# Altium footprint library APSS Prototype Parts.PcbLib: 22 footprints (part 2 of 2)
Each footprint in its own frame and in the unit in brackets; x right, y up, seen from the top. Pads: shape width x height; smd on the part's side, far side on the other; paste and mask are expansions set on the pad; w line width, h text height; cw(c..) or ccw(c..) is an arc to the next point about the centre after c.
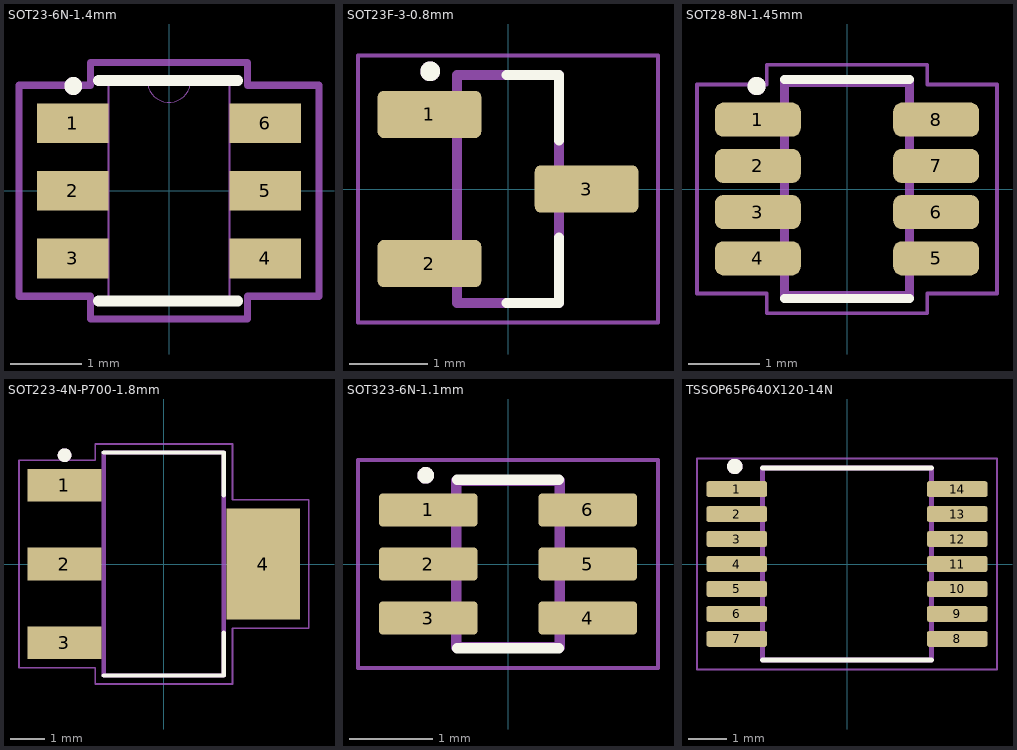
[diagram p1: the footprints below, top view; thin cyan lines are the x and y axes]

## SOT23-6N-1.4mm [mil] "SOT23, 6 pins, nominal pads, 1.4mm high"
height 55.12
pads (6):
  rect 39.5x22 smd paste+0 mask+2: 1(-53.25,37.4) 2(-53.25,0) 3(-53.25,-37.4) 4(53.25,-37.4) 5(53.25,0) 6(53.25,37.4)
Top Overlay:
  circle w7.87: c-53,58 r1
  lines w6: -39,-61 38,-61 ; -39,61 38,61
Mechanical 13:
  circle w7.87: c-53,58 r1
  lines w0: -12,61 ccw(c0,61) 12,61
  lines w1: -59,-47.4 -59,-27.4 -33.5,-27.4 -33.5,-47.4 -59,-47.4 ; -59,-10 -59,10 -33.5,10 -33.5,-10 -59,-10 ; -59,27.4 -59,47.4 -33.5,47.4 -33.5,27.4 -59,27.4 ; -33.5,-61 33.5,-61 33.5,61 -33.5,61 -33.5,-61 ; 33.5,-47.4 33.5,-27.4 59,-27.4 59,-47.4 33.5,-47.4 ; 33.5,-10 33.5,10 59,10 59,-10 33.5,-10 ; 33.5,27.4 33.5,47.4 59,47.4 59,27.4 33.5,27.4
Mechanical 15:
  lines w4: -83,-58.4 -83,58.4 -43.5,58.4 -43.5,71 43.5,71 43.5,58.4 83,58.4 83,-58.4 43.5,-58.4 43.5,-71 -43.5,-71 -43.5,-58.4 -83,-58.4
3D body "SOT26_AP3445_DIO.step": height 55.12, standoff 0, extent -59.02,-60.98 59.02,60.98

## SOT23F-3-0.8mm [mm] "SOT23, 3-pin, flat leads, 0.8mm high"
height 0.8
pads (3):
  rrect25% 1.32x0.6 smd mask+0.051: 1(-1,0.95) 2(-1,-0.95) 3(1,0)
Top Overlay:
  circle w0.2: c-0.991,1.499 r0.025
  lines w0.127: -0.02,-1.45 0.65,-1.45 0.65,-0.62 ; -0.02,1.45 0.65,1.45 0.65,0.62
Mechanical 13:
  circle w0.2: c-0.991,1.499 r0.025
  lines w0.127: -0.65,-1.45 -0.65,1.45 0.65,1.45 0.65,-1.45 -0.65,-1.45
Mechanical 15:
  lines w0.05: -1.91,-1.7 1.91,-1.7 1.91,1.7 -1.91,1.7 -1.91,-1.7
3D body "SSM3J328R_LF.step": height 0.88, standoff 0, extent -1.2,-1.4 1.2,1.4

## SOT28-8N-1.45mm [mm] "SOT28, 8 pin, 1.45mm high, nominal pads"
height 1.45
pads (8):
  rrect50% 1.21x0.48 smd mask+0.051: 1(-1.255,0.975) 2(-1.255,0.325) 3(-1.255,-0.325) 4(-1.255,-0.975) 5(1.255,-0.975) 6(1.255,-0.325) 7(1.255,0.325) 8(1.255,0.975)
Top Overlay:
  circle w0.203: c-1.27,1.448 r0.025
  lines w0.127: -0.88,-1.54 0.88,-1.54 ; -0.88,1.54 0.88,1.54
Mechanical 13:
  circle w0.203: c-1.27,1.448 r0.025
  lines w0.127: -0.88,-1.5 -0.88,1.5 0.88,1.5 0.88,-1.5 -0.88,-1.5
Mechanical 15:
  lines w0.05: -2.11,-1.47 -1.13,-1.47 -1.13,-1.75 1.13,-1.75 1.13,-1.47 2.11,-1.47 2.11,1.47 1.13,1.47 1.13,1.75 -1.13,1.75 -1.13,1.47 -2.11,1.47 -2.11,-1.47
3D body "MAX9113EKA+T.STEP": height 1.45, standoff 0, extent -1.4,-1.45 1.4,1.45

## SOT223-4N-P700-1.8mm [mm] "SOT223, 4-pin, power pad, 1.8mm high,"
height 1.8
pads (4):
  rect 2.15x0.95 smd: 1(-2.9,2.3) 2(-2.9,0) 3(-2.9,-2.3)
  rect 2.15x3.25 smd: 4(2.9,0)
Top Overlay:
  circle w0.2: c-2.896,3.175 r0.1
  lines w0.127: -1.75,-3.25 1.75,-3.25 1.75,-2.01 ; -1.75,3.25 1.75,3.25 1.75,2.01
Mechanical 13:
  circle w0.2: c-2.896,3.175 r0.1
  lines w0.127: -1.75,-3.25 -1.75,3.25 1.75,3.25 1.75,-3.25 -1.75,-3.25
Mechanical 15:
  lines w0.05: -4.225,-3.025 -4.225,3.025 -2,3.025 -2,3.5 2,3.5 2,1.875 4.225,1.875 4.225,-1.875 2,-1.875 2,-3.5 -2,-3.5 -2,-3.025 -4.225,-3.025
3D body "LM317EMPX_NOPB.step": height 1.8, standoff 0, extent -3.499,-3.25 3.499,3.25

## SOT323-6N-1.1mm [mm] "SOT323, 6 pins, nominal pads, 1.1mm high"
height 1.1
pads (6):
  rrect25% 1.19x0.4 smd mask+0.051: 1(-0.96,0.65) 2(-0.96,0) 3(-0.96,-0.65) 4(0.96,-0.65) 5(0.96,0) 6(0.96,0.65)
Top Overlay:
  circle w0.1: c-0.991,1.067 r0.051
  lines w0.127: -0.61,-1.016 0.61,-1.016 ; -0.61,1.016 0.61,1.016
Mechanical 13:
  circle w0.1: c-0.991,1.067 r0.051
  lines w0.127: -0.625,-1 0.625,-1 0.625,1 -0.625,1 -0.625,-1
Mechanical 15:
  lines w0.05: -1.805,-1.25 1.805,-1.25 1.805,1.25 -1.805,1.25 -1.805,-1.25
3D body "step_temp.STEP": height 1.1, standoff 0, extent -1.05,-1 1.05,1

## TSSOP65P640X120-14N [mm] "TSSOP/MSOP/VSSOP, 4.4mm wide, 14 pin nominal, 1.2mm high"
height 1.2
pads (14):
  rrect25% 1.57x0.41 smd mask+0.051: 1(-2.87,1.95) 2(-2.87,1.3) 3(-2.87,0.65) 4(-2.87,0) 5(-2.87,-0.65) 6(-2.87,-1.3) 7(-2.87,-1.95) 8(2.87,-1.95) 9(2.87,-1.3) 10(2.87,-0.65) 11(2.87,0) 12(2.87,0.65) 13(2.87,1.3) 14(2.87,1.95)
Top Overlay:
  circle w0.2: c-2.921,2.54 r0.1
  lines w0.127: -2.2,-2.5 2.2,-2.5 ; -2.2,2.5 2.2,2.5
Mechanical 13:
  circle w0.2: c-2.921,2.54 r0.1
  lines w0.127: -2.2,-2.5 2.2,-2.5 2.2,2.5 -2.2,2.5 -2.2,-2.5
Mechanical 15:
  lines w0.05: -3.905,-2.75 3.905,-2.75 3.905,2.75 -3.905,2.75 -3.905,-2.75
3D body "TLV9004IPWR.step": height 1.2, standoff 0, extent -3.2,-2.5 3.2,2.5